# EAGLE library part MOD_BU3591 (library akita)
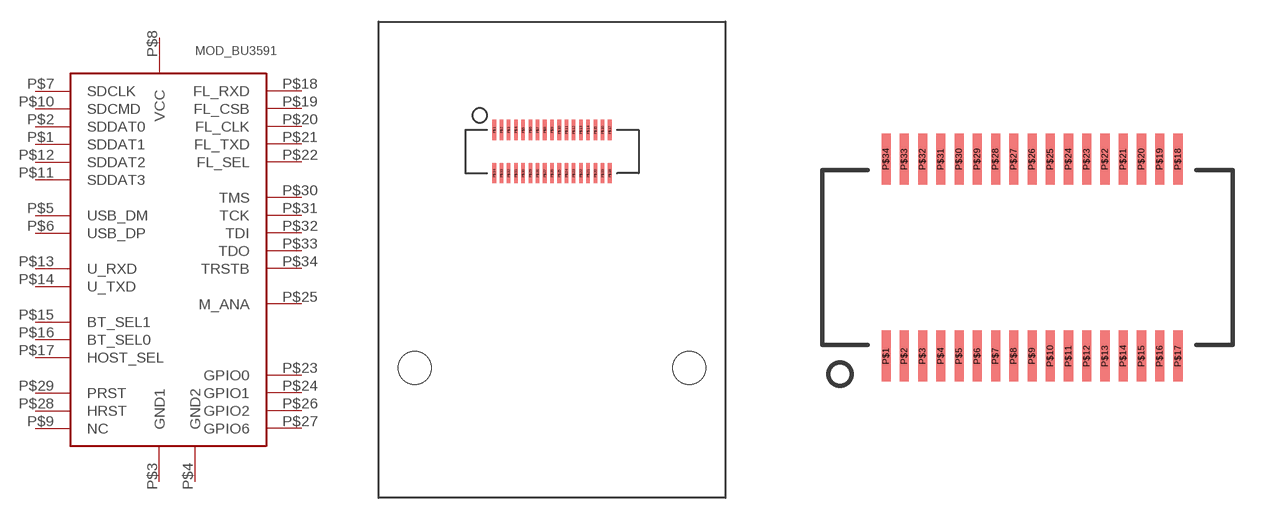
[diagram p40: symbol with the pads of MOD_BU3591; footprints MOD_BU3591, CON_AXK5F34347YG]

Designator prefix U

## MOD_BU3591  [MOD_BU3591]
P$1  SDDAT1
P$2  SDDAT0
P$3  GND1
P$4  GND2
P$5  USB_DM
P$6  USB_DP
P$7  SDCLK
P$8  VCC
P$9  NC
P$10  SDCMD
P$11  SDDAT3
P$12  SDDAT2
P$13  U_RXD
P$14  U_TXD
P$15  BT_SEL1
P$16  BT_SEL0
P$17  HOST_SEL
P$18  FL_RXD
P$19  FL_CSB
P$20  FL_CLK
P$21  FL_TXD
P$22  FL_SEL
P$23  GPIO0
P$24  GPIO1
P$25  M_ANA
P$26  GPIO2
P$27  GPIO6
P$28  HRST
P$29  PRST
P$30  TMS
P$31  TCK
P$32  TDI
P$33  TDO
P$34  TRSTB

## MOD_BU3591SKT  [CON_AXK5F34347YG]
Pads as for MOD_BU3591

## Footprint MOD_BU3591 (pad centres in mm)
smd 0.25 x 1.4: P$1 -4,1.5; P$2 -3.5,1.5; P$3 -3,1.5; P$4 -2.5,1.5; P$5 -2,1.5; P$6 -1.5,1.5; P$7 -1,1.5; P$8 -0.5,1.5; P$9 0,1.5; P$10 0.5,1.5; P$11 1,1.5; P$12 1.5,1.5; P$13 2,1.5; P$14 2.5,1.5; P$15 3,1.5; P$16 3.5,1.5; P$17 4,1.5; P$18 4,-1.5; P$19 3.5,-1.5; P$20 3,-1.5; P$21 2.5,-1.5; P$22 2,-1.5; P$23 1.5,-1.5; P$24 1,-1.5; P$25 0.5,-1.5; P$26 0,-1.5; P$27 -0.5,-1.5; P$28 -1,-1.5; P$29 -1.5,-1.5; P$30 -2,-1.5; P$31 -2.5,-1.5; P$32 -3,-1.5; P$33 -3.5,-1.5; P$34 -4,-1.5
hole 2.3 at 9.5,-15
hole 2.3 at -9.5,-15

## Footprint CON_AXK5F34347YG (pad centres in mm)
smd 0.25 x 1.4: P$1 -4,-2.7; P$2 -3.5,-2.7; P$3 -3,-2.7; P$4 -2.5,-2.7; P$5 -2,-2.7; P$6 -1.5,-2.7; P$7 -1,-2.7; P$8 -0.5,-2.7; P$9 0,-2.7; P$10 0.5,-2.7; P$11 1,-2.7; P$12 1.5,-2.7; P$13 2,-2.7; P$14 2.5,-2.7; P$15 3,-2.7; P$16 3.5,-2.7; P$17 4,-2.7; P$18 4,2.7; P$19 3.5,2.7; P$20 3,2.7; P$21 2.5,2.7; P$22 2,2.7; P$23 1.5,2.7; P$24 1,2.7; P$25 0.5,2.7; P$26 0,2.7; P$27 -0.5,2.7; P$28 -1,2.7; P$29 -1.5,2.7; P$30 -2,2.7; P$31 -2.5,2.7; P$32 -3,2.7; P$33 -3.5,2.7; P$34 -4,2.7